# EAGLE library part TLC5951 (library iuhr)
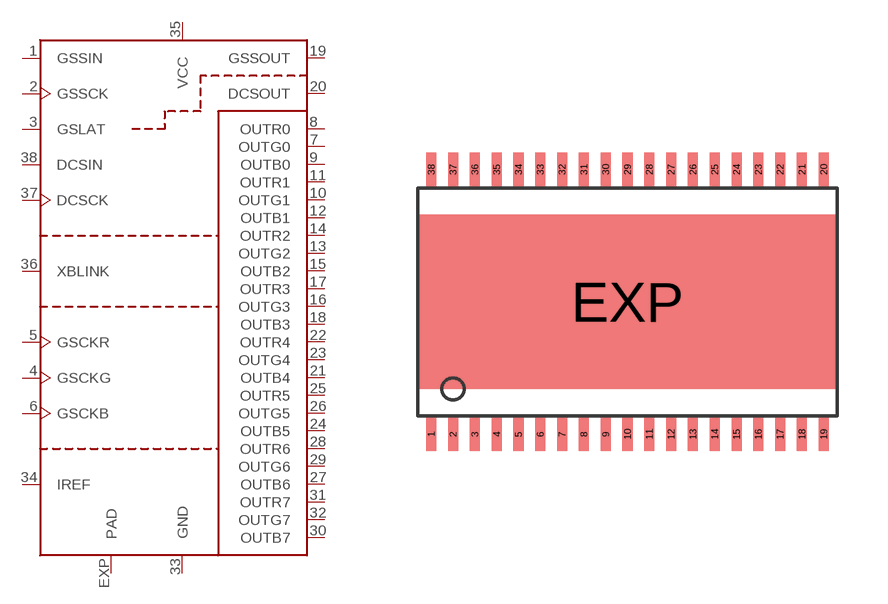
[diagram p0: symbol with the pads of HTSSOP38DAP; footprint HTSSOP38DAP]

Designator prefix DAP

## TLC5951  [HTSSOP38DAP]
1  GSSIN  in
2  GSSCK  in
3  GSLAT  in
4  GSCKG  in
5  GSCKR  in
6  GSCKB  in
7  OUTG0  oc
8  OUTR0  oc
9  OUTB0  oc
10  OUTG1  oc
11  OUTR1  oc
12  OUTB1  oc
13  OUTG2  oc
14  OUTR2  oc
15  OUTB2  oc
16  OUTG3  oc
17  OUTR3  oc
18  OUTB3  oc
19  GSSOUT  out
20  DCSOUT  out
21  OUTB4  oc
22  OUTR4  oc
23  OUTG4  oc
24  OUTB5  oc
25  OUTR5  oc
26  OUTG5  oc
27  OUTB6  oc
28  OUTR6  oc
29  OUTG6  oc
30  OUTB7  oc
31  OUTR7  oc
32  OUTG7  oc
33  GND  pwr
34  IREF  in
35  VCC  pwr
36  XBLINK  in
37  DCSCK  in
38  DCSIN  in
EXP  PAD  nc

## Footprint HTSSOP38DAP (pad centres in mm)
PowerPAD(TM) PLASTIC SMALL-OUTLINE PACKAGE DAP (R-PDSO-G**) Source: http://focus.ti.com/lit/ml/mpds029b/mpds029b.pdf / slma002.pdf
smd 0.3 x 1: 1 -5.85,-3.95; 2 -5.2,-3.95; 3 -4.55,-3.95; 4 -3.9,-3.95; 5 -3.25,-3.95; 6 -2.6,-3.95; 7 -1.95,-3.95; 8 -1.3,-3.95; 9 -0.65,-3.95; 10 0,-3.95; 11 0.65,-3.95; 12 1.3,-3.95; 13 1.95,-3.95; 14 2.6,-3.95; 15 3.25,-3.95; 16 3.9,-3.95; 17 4.55,-3.95; 18 5.2,-3.95; 19 5.85,-3.95; 20 5.85,3.95; 21 5.2,3.95; 22 4.55,3.95; 23 3.9,3.95; 24 3.25,3.95; 25 2.6,3.95; 26 1.95,3.95; 27 1.3,3.95; 28 0.65,3.95; 29 0,3.95; 30 -0.65,3.95; 31 -1.3,3.95; 32 -1.95,3.95; 33 -2.6,3.95; 34 -3.25,3.95; 35 -3.9,3.95; 36 -4.55,3.95; 37 -5.2,3.95; 38 -5.85,3.95
smd 12.5 x 5.2: EXP 0,0